# EAGLE library part LED_7_SEGMENT_ (library HyTechDevices)
Low-Profile 7-Segment Display DSM7T Blue <https://vcclite.com/wp-content/uploads/wpallimport/files/files/DSM7TA56106T.pdf> DSM7T Green <https://vcclite.com/wp-content/uploads/wpallimport/files/files/DSM7TA56105T.pdf>
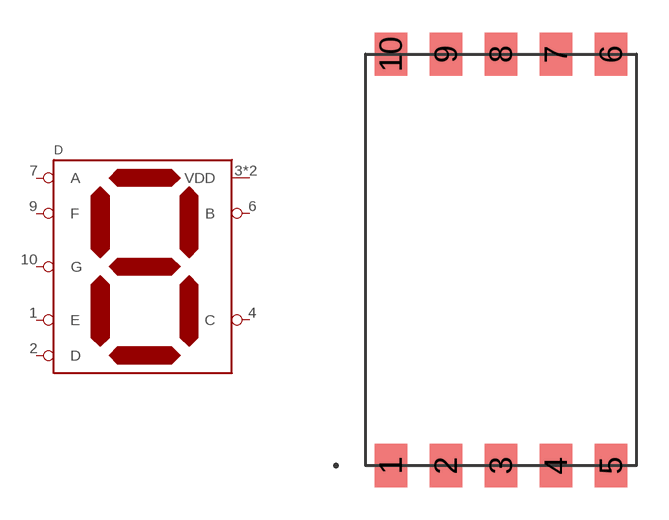
[diagram p32: symbol with the pads of DSM7T; footprint DSM7T]

Designator prefix D

## LED_7_SEGMENT_BLUE_DSM7TA (COLOR: Blue; DKPN: DSM7TA56106TTR-ND; MANUFACTURER: Visual Communications Company; MOPN: 593-DSM7TA56106T; MPN: DSM7TA56106T), LED_7_SEGMENT_GREEN_DSM7TA (COLOR: Green; DKPN: DSM7TA56105TTR-ND; MANUFACTURER: Visual Communications Company; MOPN: 593-DSM7TA56105T; MPN: DSM7TA56105T)  [DSM7T]
1  E  in
2  D  in
3  VDD  pwr
4  C  in
6  B  in
7  A  in
8  VDD  pwr
9  F  in
10  G  in

## Footprint DSM7T (pad centres in mm)
DSM7T LED 7 Segment Display No footprint provided, pads determined from datasheet Pad width = width of mounting point Pad height = 2x height of mounting point centered at edge Datasheet <https://vcclite.com/wp-content/uploads/wpallimport/files/files/DSM7TA56105T.pdf>
smd 1.5 x 2: 1 -5.08,-9.5; 2 -2.54,-9.5; 3 0,-9.5; 4 2.54,-9.5; 5 5.08,-9.5; 6 5.08,9.5; 7 2.54,9.5; 8 0,9.5; 9 -2.54,9.5; 10 -5.08,9.5